# Altium schematic symbol library VideoConnectors.SchLib: 3 symbols
Pins are listed as number, name and electrical type; pins without a type are passive.

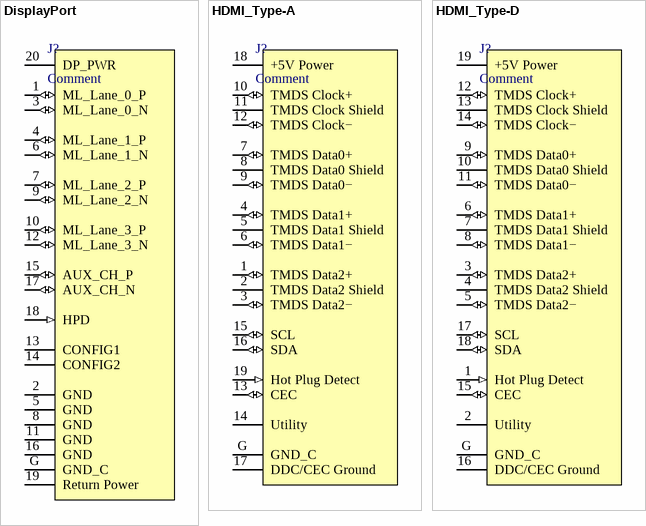
[diagram p0: symbols DisplayPort to HDMI_Type-D]

## DisplayPort
designator J?, comment Comment
pins: 1 ML_Lane_0_P (io) "Main Link Lane 0 positive signal", 2 GND (power) "Ground for signal return", 3 ML_Lane_0_N (io) "Main Link Lane 0 negative signal", 4 ML_Lane_1_P (io) "Main Link Lane 1 positive signal", 5 GND (power) "Ground for signal return", 6 ML_Lane_1_N (io) "Main Link Lane 1 negative signal", 7 ML_Lane_2_P (io) "Main Link Lane 2 positive signal", 8 GND (power) "Ground for signal return", 9 ML_Lane_2_N (io) "Main Link Lane 2 negative signal", 10 ML_Lane_3_P (io) "Main Link Lane 3 positive signal", 11 GND (power) "Ground for signal return", 12 ML_Lane_3_N (io) "Main Link Lane 3 negative signal", 13 CONFIG1 "Configuration pin; normally pulled to GND (not connected in the cable)", 14 CONFIG2 "Configuration pin; pulled high on a DisplayPort source", 15 AUX_CH_P (io) "Auxiliary Channel positive signal", 16 GND (power) "Ground for signal return", 17 AUX_CH_N (io) "Auxiliary Channel negative signal", 18 HPD (in) "Hot Plug Detect signal (source detection and status notification from sink)", 19 Return Power (power) "Power return from sink to source", 20 DP_PWR (power) "Optional power provided by source for adapter/sink (max 500mA at 3.3V)", G GND_C (power) "Chassis ground"

## HDMI_Type-A
designator J?, comment Comment
pins: 1 TMDS Data2+ (io) "Positive differential signal for TMDS Data2", 2 TMDS Data2 Shield "Shield for TMDS Data2", 3 TMDS Data2− (io) "Negative differential signal for TMDS Data2", 4 TMDS Data1+ (io) "Positive differential signal for TMDS Data1", 5 TMDS Data1 Shield "Shield for TMDS Data1", 6 TMDS Data1− (io) "Negative differential signal for TMDS Data1", 7 TMDS Data0+ (io) "Positive differential signal for TMDS Data0", 8 TMDS Data0 Shield "Shield for TMDS Data0", 9 TMDS Data0− (io) "Negative differential signal for TMDS Data0", 10 TMDS Clock+ (io) "Positive differential clock signal", 11 TMDS Clock Shield "Shield for TMDS Clock", 12 TMDS Clock− (io) "Negative differential clock signal", 13 CEC (io) "Consumer Electronics Control signal", 14 Utility "Reserved/Utility", 15 SCL (io) "I2C Clock for EDID", 16 SDA (io) "I2C Data for EDID", 17 DDC/CEC Ground (power) "Ground for DDC/CEC", 18 +5V Power (power) "Power supply (up to 50mA)", 19 Hot Plug Detect (in) "Detects sink readiness", G GND_C (power) "Chassis ground"

## HDMI_Type-D
designator J?, comment Comment
pins: 1 Hot Plug Detect (in) "Detects sink readiness", 2 Utility "Reserved/Utility", 3 TMDS Data2+ (io) "Positive differential signal for TMDS Data2", 4 TMDS Data2 Shield "Shield for TMDS Data2", 5 TMDS Data2− (io) "Negative differential signal for TMDS Data2", 6 TMDS Data1+ (io) "Positive differential signal for TMDS Data1", 7 TMDS Data1 Shield "Shield for TMDS Data1", 8 TMDS Data1− (io) "Negative differential signal for TMDS Data1", 9 TMDS Data0+ (io) "Positive differential signal for TMDS Data0", 10 TMDS Data0 Shield "Shield for TMDS Data0", 11 TMDS Data0− (io) "Negative differential signal for TMDS Data0", 12 TMDS Clock+ (io) "Positive differential clock signal", 13 TMDS Clock Shield "Shield for TMDS Clock", 14 TMDS Clock− (io) "Negative differential clock signal", 15 CEC (io) "Consumer Electronics Control signal", 16 DDC/CEC Ground (power) "Ground for DDC/CEC", 17 SCL (io) "I2C Clock for EDID", 18 SDA (io) "I2C Data for EDID", 19 +5V Power (power) "Power supply (up to 50mA)", G GND_C (power) "Chassis ground"